# Altium footprint library стабилизаторы импульсные.PcbLib: 45 footprints (part 3 of 3)
Each footprint in its own frame and in the unit in brackets; x right, y up, seen from the top. Pads: shape width x height; smd on the part's side, far side on the other; paste and mask are expansions set on the pad; w line width, h text height; cw(c..) or ccw(c..) is an arc to the next point about the centre after c.
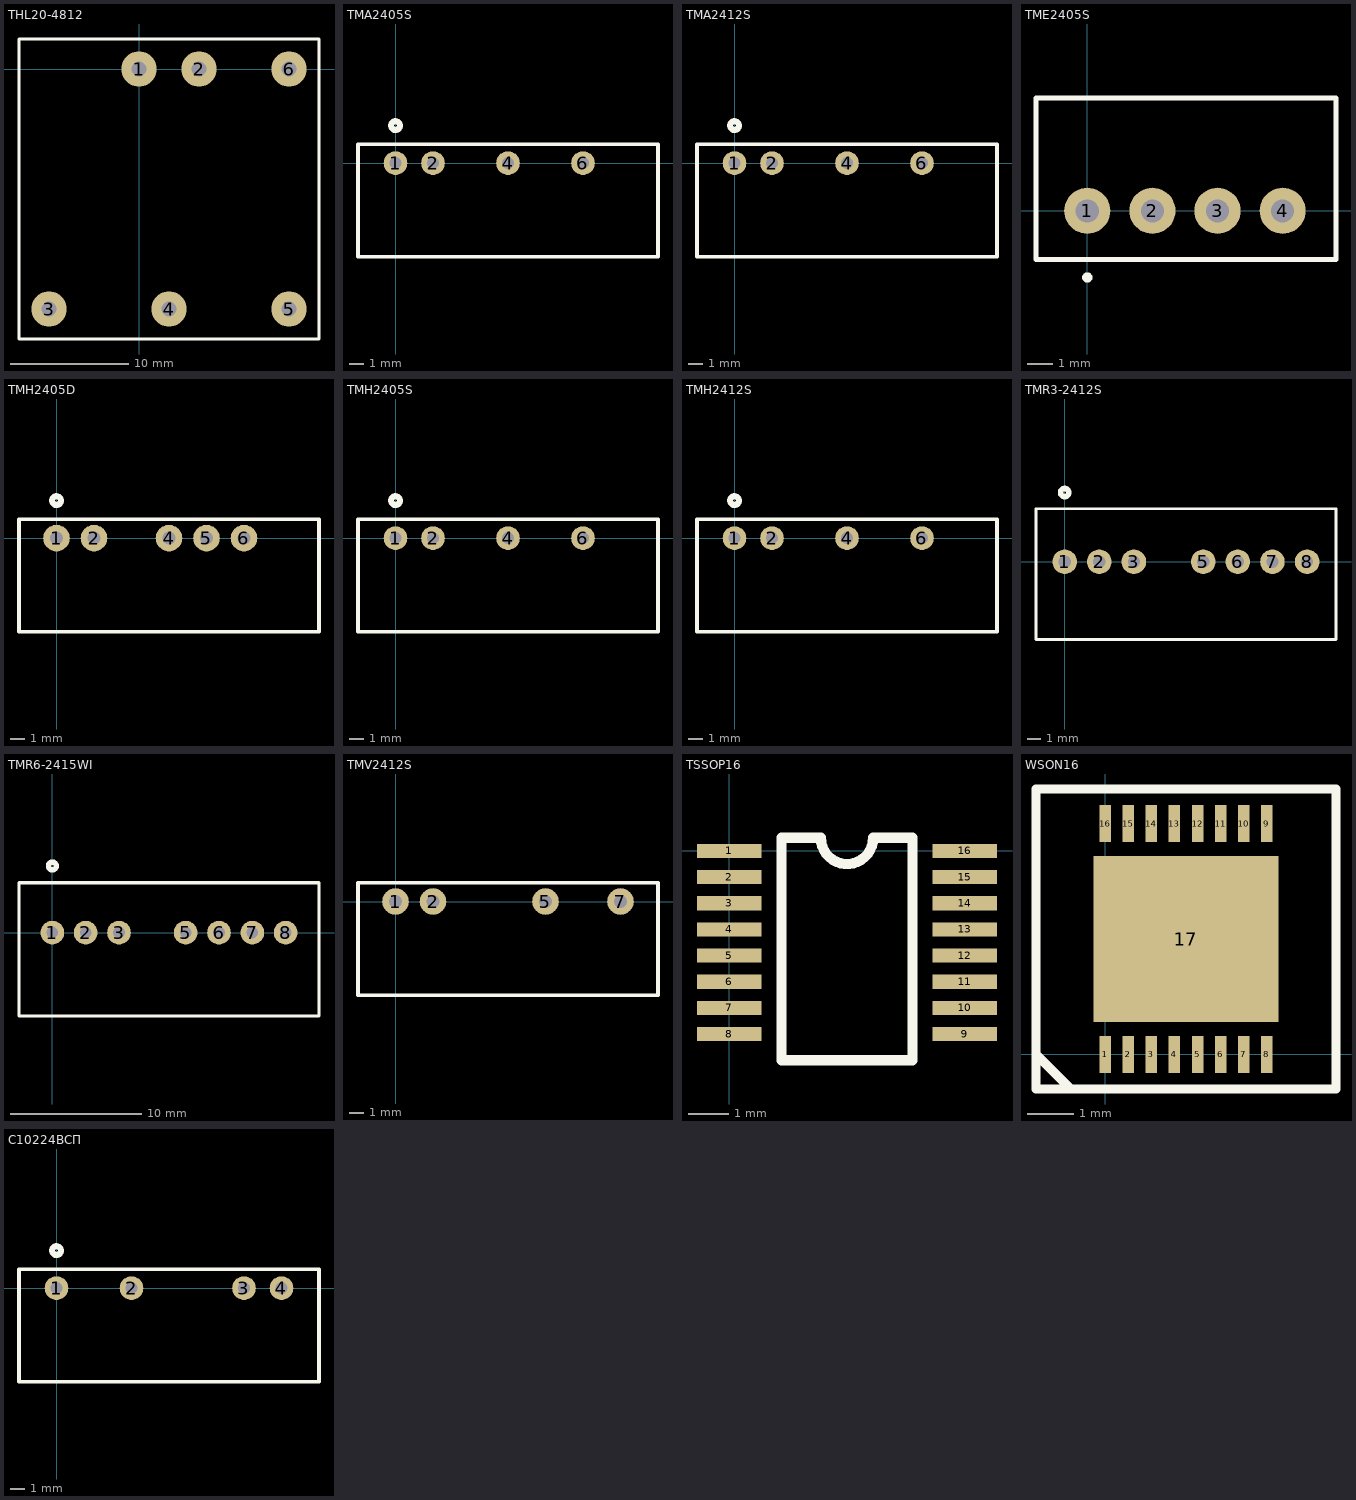
[diagram p2: the footprints below, top view; thin cyan lines are the x and y axes]

## THL20-4812 [mm]
pads (6):
  round 3 hole 1.3: 1(0,0) 2(5.08,0) 3(-7.62,-20.32) 4(2.54,-20.32) 5(12.7,-20.32) 6(12.7,0)
Top Overlay:
  lines w0.254: -10.16,-22.86 -10.16,2.54 15.24,2.54 15.24,-22.86 -10.16,-22.86

## TMA2405S [mm]
pads (4):
  round 1.6 hole 0.8: 1(0,0) 2(2.54,0) 4(7.62,0) 6(12.7,0)
Top Overlay:
  circle w0.4: c0,2.54 r0.3
  lines w0.254: -2.54,-6.35 17.78,-6.35 17.78,1.27 -2.54,1.27 -2.54,-6.35

## TMA2412S [mm]
pads (4):
  round 1.6 hole 0.8: 1(0,0) 2(2.54,0) 4(7.62,0) 6(12.7,0)
Top Overlay:
  circle w0.4: c0,2.54 r0.3
  lines w0.254: -2.54,-6.35 -2.54,1.27 17.78,1.27 17.78,-6.35 -2.54,-6.35

## TME2405S [mm]
pads (4):
  round 1.8 hole 0.9 mask+0.025: 1(0,0) 2(2.54,0) 3(5.08,0) 4(7.62,0)
Top Overlay:
  circle w0.2: c0,-2.6 r0.1
  lines w0.2: -2,-1.9 -2,4.4 9.7,4.4 9.7,-1.9 -2,-1.9
3D body "User Library-TME XXXXS.SLDPRT": height 10.2, standoff -3.2, extent -1.875,-1.775 9.625,4.325

## TMH2405D [mm]
pads (5):
  round 1.8 hole 0.9: 1(0,0) 2(2.54,0) 4(7.62,0) 5(10.16,0) 6(12.7,0)
Top Overlay:
  circle w0.4: c0,2.54 r0.3
  lines w0.254: -2.54,-6.35 -2.54,1.27 17.78,1.27 17.78,-6.35 -2.54,-6.35

## TMH2405S [mm]
pads (4):
  round 1.6 hole 0.8: 1(0,0) 2(2.54,0) 4(7.62,0) 6(12.7,0)
Top Overlay:
  circle w0.4: c0,2.54 r0.3
  lines w0.254: -2.54,-6.35 17.78,-6.35 17.78,1.27 -2.54,1.27 -2.54,-6.35

## TMH2412S [mm]
pads (4):
  round 1.6 hole 0.8: 1(0,0) 2(2.54,0) 4(7.62,0) 6(12.7,0)
Top Overlay:
  circle w0.4: c0,2.54 r0.3
  lines w0.254: -2.54,-6.35 17.78,-6.35 17.78,1.27 -2.54,1.27 -2.54,-6.35

## TMR3-2412S [mm]
pads (7):
  round 1.8 hole 0.9: 1(0,0) 2(2.54,0) 3(5.08,0) 5(10.16,0) 6(12.7,0) 7(15.24,0) 8(17.78,0)
Top Overlay:
  circle w0.4: c0,5.08 r0.3
  lines w0.2: -2.1,-5.7 19.9,-5.7 19.9,3.9 -2.1,3.9 -2.1,-5.7
3D body "User Library-User Library-TRACO TMR rev3.SLDPRT": height 11.6, standoff -2.1, extent -2,-5.6 19.8,3.801

## TMR6-2415WI [mm]
pads (7):
  round 1.8 hole 0.9: 1(0,0) 2(2.54,0) 3(5.08,0) 5(10.16,0) 6(12.7,0) 7(15.24,0) 8(17.78,0)
Top Overlay:
  circle w0.4: c0,5.08 r0.3
  lines w0.254: -2.54,-6.35 -2.54,3.81 20.32,3.81 20.32,-6.35 -2.54,-6.35
3D body "tmr_6-2410wi.SLDPRT": height 11.1, standoff -4.1, extent -2,-5.9 19.8,3.3

## TMV2412S [mm]
pads (4):
  round 1.8 hole 0.9: 1(0,0) 2(2.54,0) 5(10.16,0) 7(15.24,0)
Top Overlay:
  lines w0.254: -2.54,-6.35 17.78,-6.35 17.78,1.27 -2.54,1.27 -2.54,-6.35

## TSSOP16 [mm]
pads (16):
  rect 1.6x0.35 smd: 1(0,0) 2(0,-0.65) 3(0,-1.3) 4(0,-1.95) 5(0,-2.6) 6(0,-3.25) 7(0,-3.9) 8(0,-4.55) 9(5.85,-4.55) 10(5.85,-3.9) 11(5.85,-3.25) 12(5.85,-2.6) 13(5.85,-1.95) 14(5.85,-1.3) 15(5.85,-0.65) 16(5.85,0)
Top Overlay:
  lines w0.254: 1.3,-5.2 4.55,-5.2 4.55,0.325 3.575,0.325 cw(c2.925,0.325) 2.275,0.325 1.3,0.325 1.3,-5.2

## WSON16 [mm]
pads (17):
  rect 0.25x0.8 smd: 1(0,0) 2(0.5,0) 3(1,0) 4(1.5,0) 5(2,0) 6(2.5,0) 7(3,0) 8(3.5,0) 9(3.5,5) 10(3,5) 11(2.5,5) 12(2,5) 13(1.5,5) 14(1,5) 15(0.5,5) 16(0,5)
  rect 4x3.6 smd: 17(1.75,2.5)
Top Overlay:
  lines w0.2: -1.5,0 -0.75,-0.75 ; -1.5,-0.75 5,-0.75 5,5.75 -1.5,5.75 -1.5,-0.75

## С10224ВСП [mm]
pads (4):
  round 1.6 hole 0.8: 1(0,0) 2(5.08,0) 3(12.7,0) 4(15.24,0)
Top Overlay:
  circle w0.4: c0,2.54 r0.3
  lines w0.254: -2.54,-6.35 17.78,-6.35 17.78,1.27 -2.54,1.27 -2.54,-6.35